# Altium footprint library LED strips.PcbLib: 3 footprints
Each footprint in its own frame and in the unit in brackets; x right, y up, seen from the top. Pads: shape width x height; smd on the part's side, far side on the other; paste and mask are expansions set on the pad; w line width, h text height; cw(c..) or ccw(c..) is an arc to the next point about the centre after c.
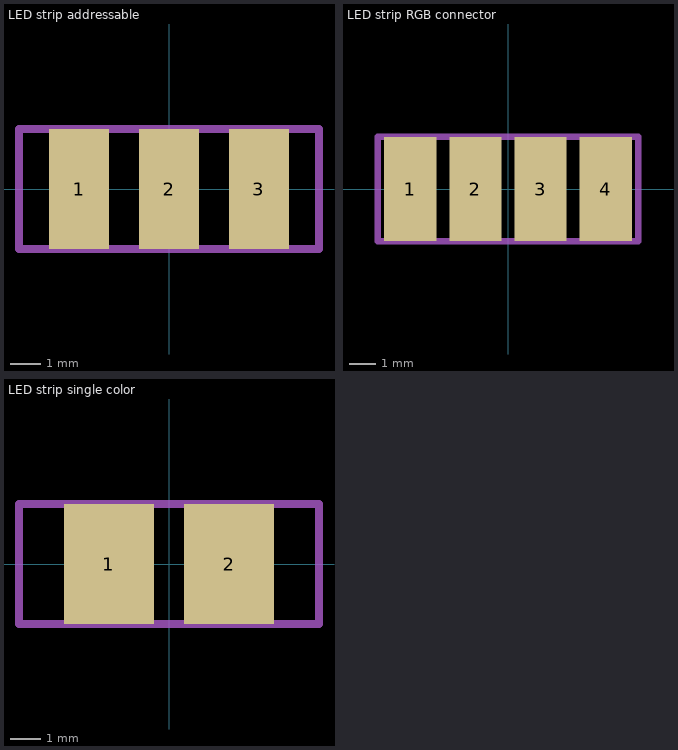
[diagram p0: the footprints below, top view; thin cyan lines are the x and y axes]

## LED strip addressable [mm]
pads (3):
  rect 2x4 all layers, no hole: 1(-3,0) 2(0,0) 3(3,0)
Mechanical 1:
  lines w0.254: -5,-2 -5,2 5,2 5,-2 -5,-2

## LED strip RGB connector [mm]
pads (4):
  rect 2x4 all layers, no hole: 1(-3.75,0) 2(-1.25,0) 3(1.25,0) 4(3.75,0)
Mechanical 1:
  lines w0.254: -5,-2 5,-2 5,2 -5,2 -5,-2

## LED strip single color [mm]
pads (2):
  rect 3x4 all layers, no hole: 1(-2,0) 2(2,0)
Mechanical 1:
  lines w0.254: -5,-2 5,-2 5,2 -5,2 -5,-2